# Altium footprint library Transistors.PcbLib: 2 footprints
Each footprint in its own frame and in the unit in brackets; x right, y up, seen from the top. Pads: shape width x height; smd on the part's side, far side on the other; paste and mask are expansions set on the pad; w line width, h text height; cw(c..) or ccw(c..) is an arc to the next point about the centre after c.
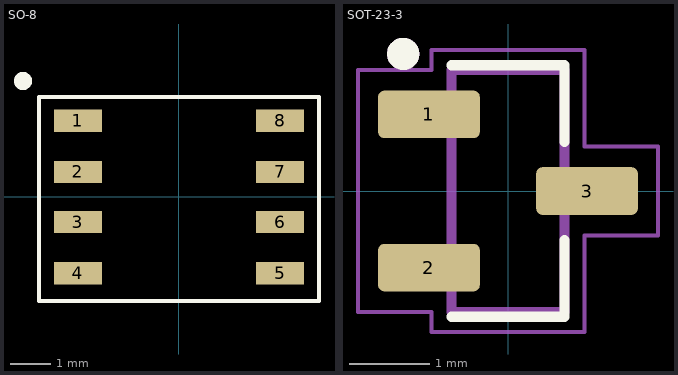
[diagram p0: the footprints below, top view; thin cyan lines are the x and y axes]

## SO-8 [mil]
pads (8):
  rect 47.01x22.01 smd: 1(-99.53,75) 2(-99.53,24.65) 3(-99.53,-24.65) 4(-99.53,-75) 5(99.53,-75) 6(99.53,-24.65) 7(99.53,24.65) 8(99.53,75)
Top Overlay:
  circle w10: c-153.54,114.17 r3.94
  lines w3.94: -137.8,-102.36 137.8,-102.36 137.8,98.43 -137.8,98.43 -137.8,-94.49 -137.8,-102.36

## SOT-23-3 [mm]
height 1.1
pads (3):
  rrect25% 1.26x0.59 smd: 1(-0.98,0.95) 2(-0.98,-0.95) 3(0.98,0)
Top Overlay:
  circle w0.2: c-1.3,1.7 r0.1
  lines w0.127: -0.7,-1.559 0.7,-1.559 0.7,-0.609 ; -0.7,1.559 0.7,1.559 0.7,0.609
Mechanical 13:
  circle w0.2: c-1.3,1.7 r0.1
  lines w0.127: -0.7,-1.5 0.7,-1.5 0.7,1.5 -0.7,1.5 -0.7,-1.5
Mechanical 15:
  lines w0.05: -1.86,-1.5 -0.95,-1.5 -0.95,-1.75 0.95,-1.75 0.95,-0.55 1.86,-0.55 1.86,0.55 0.95,0.55 0.95,1.75 -0.95,1.75 -0.95,1.5 -1.86,1.5 -1.86,-1.5
3D body "step_temp.STEP": height 0.5, standoff 0, extent -0.6,-0.7 0.6,0.7